# Altium schematic symbol library bat.SchLib: 1 symbol
Pins are listed as number, name and electrical type; pins without a type are passive.

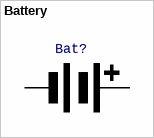
[diagram p0: symbol Battery]

## Battery
designator Bat?  (value not drawn)
footprint CR2032-1
pins: 1 -, 2 +